# Altium schematic symbol library ECS.SchLib: 3 symbols
Pins are listed as number, name and electrical type; pins without a type are passive.

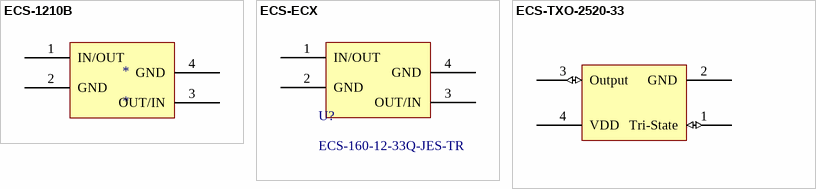
[diagram p0: symbols ECS-1210B to ECS-TXO-2520-33]

## ECS-1210B
designator *
pins: 1 IN/OUT, 2 GND, 3 OUT/IN, 4 GND

## ECS-ECX
designator U?, comment ECS-160-12-33Q-JES-TR
pins: 1 IN/OUT, 2 GND, 3 OUT/IN, 4 GND

## ECS-TXO-2520-33
designator *
footprint ECS-TXO-2520-33 (OSC TCXO 3.3V HCMOS SMD)
pins: 1 Tri-State (io), 2 GND, 3 Output (io), 4 VDD (power)